# EAGLE library part TPS73633 (library satellite)
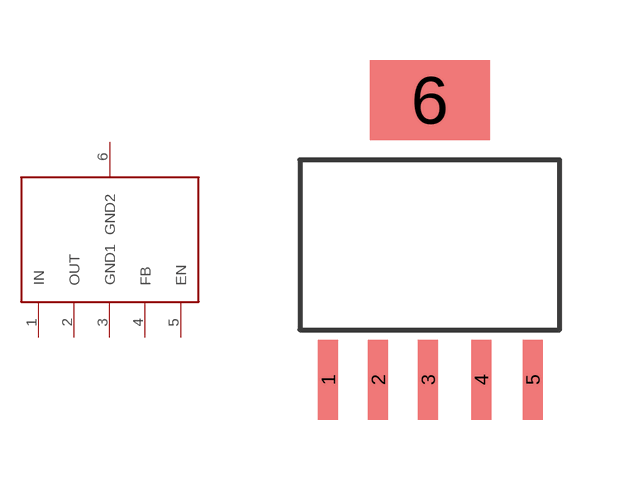
[diagram p12: symbol with the pads of SOT-223-5; footprint SOT-223-5]

Designator prefix -

## TPS73633  [SOT-223-5]
1  IN
2  OUT
3  GND1
4  FB
5  EN
6  GND2

## Footprint SOT-223-5 (pad centres in mm)
smd 0.5 x 2: 1 -2.54,-2.75; 2 -1.29,-2.75; 3 -0.04,-2.75; 4 1.29,-2.75; 5 2.58,-2.75
smd 3 x 2: 6 0,4.25